# EAGLE library part CC2500 (library cc2500 module)
PIN HEADER
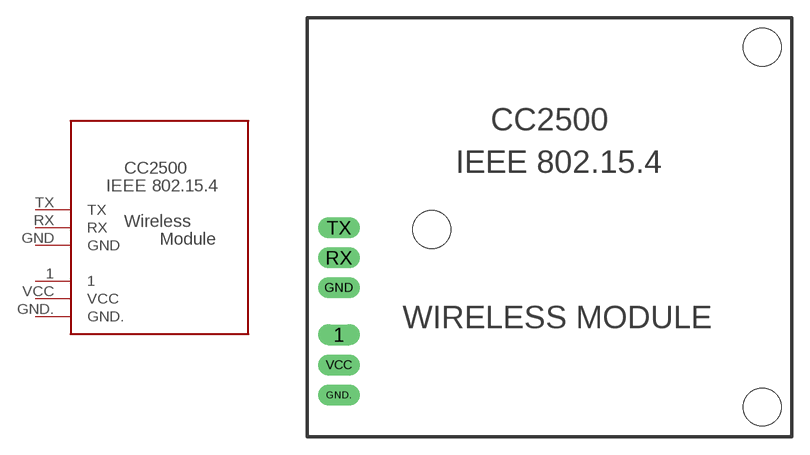
[diagram p0: symbol with the pads of CC2500-MOD; footprint CC2500-MOD]

Designator prefix SV

## CC2500 (OC_FARNELL: unknown; OC_NEWARK: unknown)  [CC2500-MOD]
1  1
GND  GND
GND.  GND.
RX  RX
TX  TX
VCC  VCC

## Footprint CC2500-MOD (pad centres in mm)
PIN HEADER
drill 1.016 pad 1.778 long: 1 2.68,-26.84; GND 2.68,-22.84; GND. 2.68,-31.92; RX 2.68,-20.3; TX 2.68,-17.76; VCC 2.68,-29.38
hole 3.2 at 38.46,-2.5
hole 3.2 at 38.46,-32.95
hole 3.2 at 10.52,-17.92